# EAGLE library part OPA2140AI (library MDB_HOMEBAK)
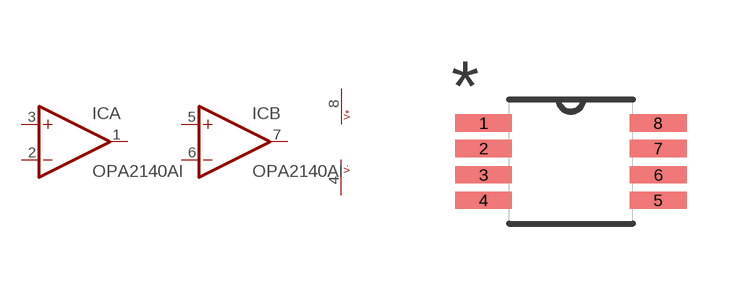
[diagram p42: symbol with the pads of SOP65P490X110-8N; footprint SOP65P490X110-8N]

Designator prefix IC; gates A=OPAMP B=OPAMP C=PWR+-

## OPA2140AISOP  [SOP65P490X110-8N]
1  A:OUT  out
2  A:-IN  in
3  A:+IN  in
4  C:V-  pwr
5  B:+IN  in
6  B:-IN  in
7  B:OUT  out
8  C:V+  pwr

## Footprint SOP65P490X110-8N (pad centres in mm)
smd 1.422 x 0.432: 1 -2.184,0.965; 2 -2.184,0.33; 3 -2.184,-0.33; 4 -2.184,-0.965; 5 2.184,-0.965; 6 2.184,-0.33; 7 2.184,0.33; 8 2.184,0.965